# EAGLE library part MHDR1X10_1 (library Moo1.2)
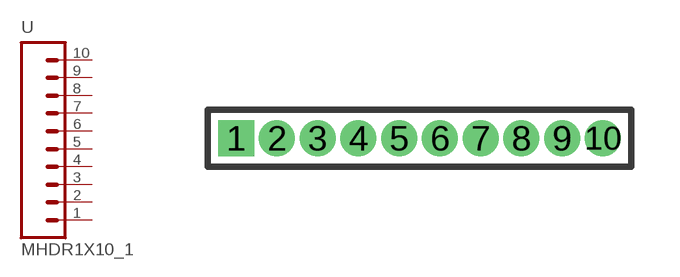
[diagram p0: symbol with the pads of MHDR1X10_1PRIMARY; footprint MHDR1X10_1PRIMARY]

Designator prefix -

## MHDR1X10_1  [MHDR1X10_1PRIMARY]
1  1  pas
2  2  pas
3  3  pas
4  4  pas
5  5  pas
6  6  pas
7  7  pas
8  8  pas
9  9  pas
10  10  pas

## Footprint MHDR1X10_1PRIMARY (pad centres in mm)
Original name MHDR1X10
drill 0.61 pad 0.991 square: 1 0,0
drill 0.61 pad 0.991: 2 1.27,0; 3 2.54,0; 4 3.81,0; 5 5.08,0; 6 6.35,0; 7 7.62,0; 8 8.89,0; 9 10.16,0; 10 11.43,0